# Altium footprint library D0008A_N.PcbLib: 1 footprints
Each footprint in its own frame and in the unit in brackets; x right, y up, seen from the top. Pads: shape width x height; smd on the part's side, far side on the other; paste and mask are expansions set on the pad; w line width, h text height; cw(c..) or ccw(c..) is an arc to the next point about the centre after c.
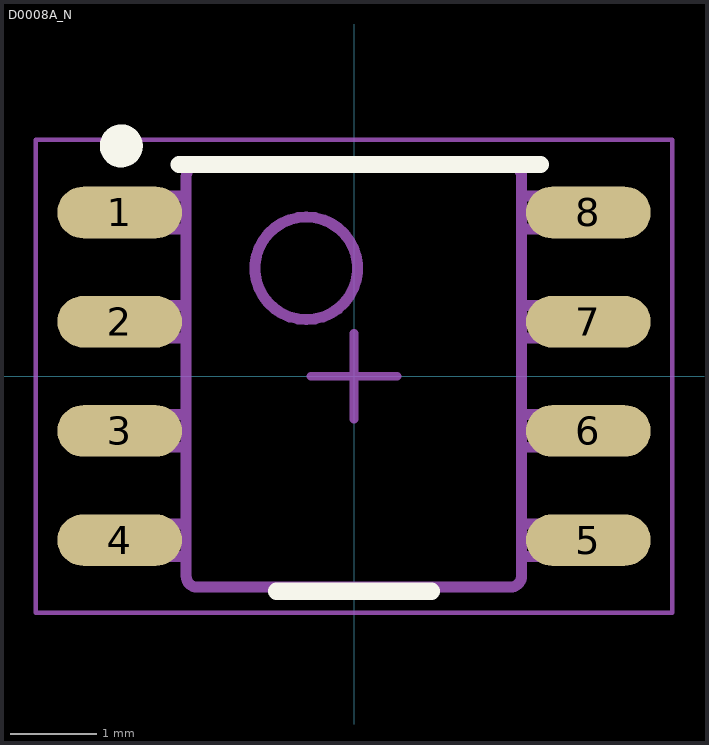
[diagram p0: the footprint, top view; thin cyan lines are the x and y axes]

## D0008A_N [mm]
pads (8):
  oval 1.45x0.6 smd paste+0 mask+0.051: 1(-2.725,1.905) 2(-2.725,0.635) 3(-2.725,-0.635) 4(-2.725,-1.905) 5(2.725,-1.905) 6(2.725,-0.635) 7(2.725,0.635) 8(2.725,1.905)
Top Overlay:
  circle w0.25: c-2.706,2.679 r0.125
  lines w0.2: -2.032,2.464 2.168,2.464 ; -0.9,-2.5 0.9,-2.5
Mechanical 13:
  lines w0.127: -2.375,-2.095 -1.995,-2.095 -1.952,-2.095 -1.952,-1.715 -1.995,-1.715 -2.375,-1.715 ; -2.375,-2.095 -2.589,-2.095 -3.002,-2.095 -3.002,-1.715 -2.589,-1.715 -2.375,-1.715 ; -2.375,-2.095 -2.375,-1.715 ; -2.375,-0.825 -1.995,-0.825 -1.952,-0.825 -1.952,-0.445 -1.995,-0.445 -2.375,-0.445 ; -2.375,-0.825 -2.589,-0.825 -3.002,-0.825 -3.002,-0.445 -2.589,-0.445 -2.375,-0.445 ; -2.375,-0.825 -2.375,-0.445 ; -2.375,0.445 -1.995,0.445 -1.952,0.445 -1.952,0.825 -1.995,0.825 -2.375,0.825 ; -2.375,0.445 -2.589,0.445 -3.002,0.445 -3.002,0.825 -2.589,0.825 -2.375,0.825 ; -2.375,0.445 -2.375,0.825 ; -2.375,1.715 -1.995,1.715 -1.952,1.715 -1.952,2.095 -1.995,2.095 -2.375,2.095 ; -2.375,1.715 -2.589,1.715 -3.002,1.715 -3.002,2.095 -2.589,2.095 -2.375,2.095 ; -2.375,1.715 -2.375,2.095 ; -0.332,-2.45 -1.825,-2.45 -1.826,-2.45 cw(c-1.825,-2.323) -1.952,-2.324 -1.952,-2.323 -1.952,2.323 -1.952,2.324 cw(c-1.825,2.323) -1.826,2.45 -1.825,2.45 -0.332,2.45 ; -0.332,-2.45 -0.182,-2.45 ; -0.332,-2.45 -0.182,-2.45 ; -0.332,2.45 -0.182,2.45 ; -0.332,2.45 -0.182,2.45 ; -0.182,-2.45 0.178,-2.45 ; -0.182,2.45 0.178,2.45 ; 0.178,-2.45 0.328,-2.45 ; 0.178,-2.45 0.328,-2.45 ; 0.178,2.45 0.328,2.45 ; 0.178,2.45 0.328,2.45 ; 0.328,-2.45 1.821,-2.45 1.822,-2.45 ccw(c1.821,-2.323) 1.948,-2.324 1.948,-2.323 1.948,2.323 1.948,2.324 ccw(c1.821,2.323) 1.822,2.45 1.821,2.45 0.328,2.45 ; 2.371,-2.095 2.585,-2.095 2.998,-2.095 2.998,-1.715 2.585,-1.715 2.371,-1.715 ; 2.371,-2.095 1.991,-2.095 1.948,-2.095 1.948,-1.715 1.991,-1.715 2.371,-1.715 ; 2.371,-2.095 2.371,-1.715 ; 2.371,-0.825 2.585,-0.825 2.998,-0.825 2.998,-0.445 2.585,-0.445 2.371,-0.445 ; 2.371,-0.825 1.991,-0.825 1.948,-0.825 1.948,-0.445 1.991,-0.445 2.371,-0.445 ; 2.371,-0.825 2.371,-0.445 ; 2.371,0.445 2.585,0.445 2.998,0.445 2.998,0.825 2.585,0.825 2.371,0.825 ; 2.371,0.445 1.991,0.445 1.948,0.445 1.948,0.825 1.991,0.825 2.371,0.825 ; 2.371,0.445 2.371,0.825 ; 2.371,1.715 2.585,1.715 2.998,1.715 2.998,2.095 2.585,2.095 2.371,2.095 ; 2.371,1.715 1.991,1.715 1.948,1.715 1.948,2.095 1.991,2.095 2.371,2.095 ; 2.371,1.715 2.371,2.095 ; -0.555,0.659 cw(c-0.555,1.256) -0.555,1.853 cw(c-0.555,1.256) -0.555,0.659
Mechanical 15:
  lines w0.05: -3.7,-2.75 3.7,-2.75 3.7,2.75 -3.7,2.75 -3.7,-2.75
  lines w0.1: -0.5,0 0.5,0 ; 0,-0.5 0,0.5
3D body "D0008A.stp": height 1.63, standoff 0, extent -2.986,-2.464 3.037,2.438